# Altium schematic symbol library TPS22918DBVT.SchLib: 1 symbol
Pins are listed as number, name and electrical type; pins without a type are passive.

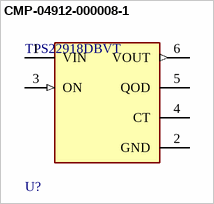
[diagram p0: symbol CMP-04912-000008-1]

## CMP-04912-000008-1
designator U?, comment TPS22918DBVT
IC PWR DIST SWITCH SNGL SOT23-6; Manufacturer: Texas Instruments; Output Current: 2A; Min Supply Voltage: 1V; Number Of Drivers: 1; Turn Off Delay Time: 2us; Output Voltage: 1-5.5V; Max Supply Voltage: 5.5V; Max Junction Temp: +125°C; Nominal Supply Current: 8.3-10.2uA; Standoff Height: 0mm; Rise Time: 2540us; Turn On Delay Time: 1950us; Propagation Delay: 690us; Package: DBV0006A; Ambient Temperature Range Low: -40°C; Lead Free: Yes; Temperature: -40°C to +105°C; Octopart: https://octopart.com/tps22918dbvt-texas+instruments-71360944; Ipc Land Pattern Name: SOT95P280X145-6; Temperature Range High: +105°C; Digikey Description: IC PWR DIST SWITCH SNGL SOT23-6; Ambient Temperature Range High: +105°C; Device Class L3: Gate Drivers; Fall Time: 2us; ComponentLink2URL: http://www.ti.com/lit/ds/symlink/tps22918.pdf; Height: 1.45mm; Number Of Outputs: 1; Device Class L2: Power Management ICs; Mouser Description: Power Switch ICs - Power Distribution 5.5-V, 2-A, 52-m? On-Resistance Load Switch 6-SOT-23 -40 to 105; ComponentLink2Description: Datasheet; Temperature Range Low: -40°C; Automotive: No; RoHS: TRUE; Manufacturer Part Number: TPS22918DBVT; Device Class L1: Integrated Circuits (ICs); Category: IC
footprint FP-DBV0006A-IPC_B
footprint FP-DBV0006A-IPC_C
footprint FP-DBV0006A-IPC_A
footprint FP-DBV0006A-MFG
pins: 1 VIN (power), 2 GND (power), 3 ON (in), 4 CT, 5 QOD, 6 VOUT (out)